# EAGLE library part ADNS-9500 (library adns9500)
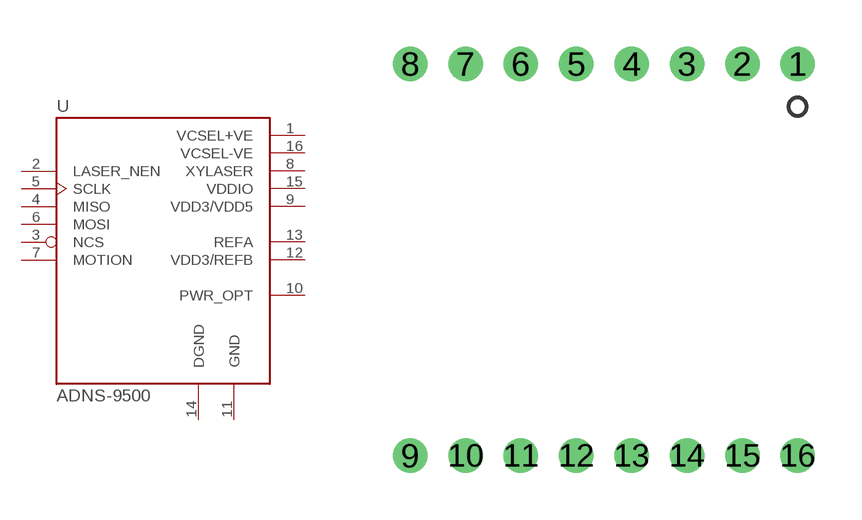
[diagram p0: symbol with the pads of ADNS-9500-PB; footprint ADNS-9500-PB]

Designator prefix U

## ADNS-9500  [ADNS-9500-PB]
1  VCSEL+VE  pwr
2  LASER_NEN  in
3  NCS  in
4  MISO  out
5  SCLK  in
6  MOSI  in
7  MOTION  out
8  XYLASER  pwr
9  VDD3/VDD5  pwr
10  PWR_OPT  pwr
11  GND  pwr
12  VDD3/REFB  pwr
13  REFA  pwr
14  DGND  pwr
15  VDDIO  pwr
16  VCSEL-VE  pwr

## Footprint ADNS-9500-PB (pad centres in mm)
drill 0.6 pad 1 round: 1 7.12,6.3; 2 5.34,6.3; 3 3.56,6.3; 4 1.78,6.3; 5 0,6.3; 6 -1.78,6.3; 7 -3.56,6.3; 8 -5.34,6.3; 9 -5.34,-6.3; 10 -3.56,-6.3; 11 -1.78,-6.3; 12 0,-6.3; 13 1.78,-6.3; 14 3.56,-6.3; 15 5.34,-6.3; 16 7.12,-6.3